# EAGLE library part TRINKET_PRO_LIPO_BACKPACK (library workoutAid)
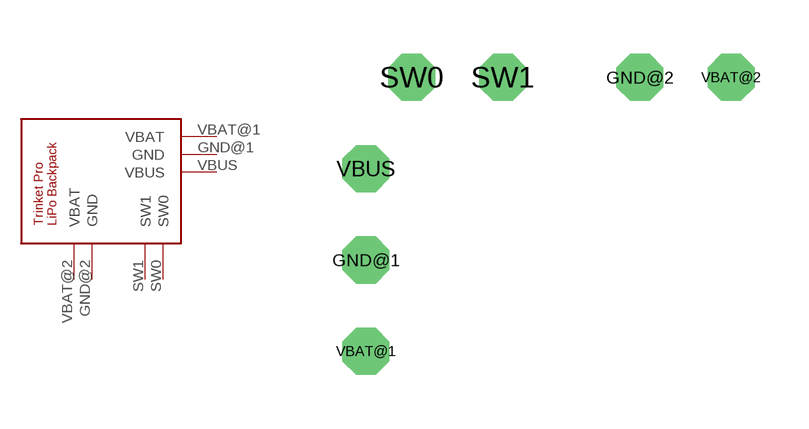
[diagram p2: symbol with the pads of TRINKET_PRO_LIPO_BACKPACK; footprint TRINKET_PRO_LIPO_BACKPACK]

Designator prefix -

## TRINKET_PRO_LIPO_BACKPACK  [TRINKET_PRO_LIPO_BACKPACK]
GND@1  GND
GND@2  GND
SW0  SW0
SW1  SW1
VBAT@1  VBAT
VBAT@2  VBAT
VBUS  VBUS

## Footprint TRINKET_PRO_LIPO_BACKPACK (pad centres in mm)
drill 0.8 octagon: GND@1 -2.54,1.27; GND@2 5.08,6.35; SW0 -1.27,6.35; SW1 1.27,6.35; VBAT@1 -2.54,-1.27; VBAT@2 7.62,6.35; VBUS -2.54,3.81